# EAGLE library part CHIPCARD-ISO-7816 (library con-chipcard-iso7816)
Chip card connector ISO 7816
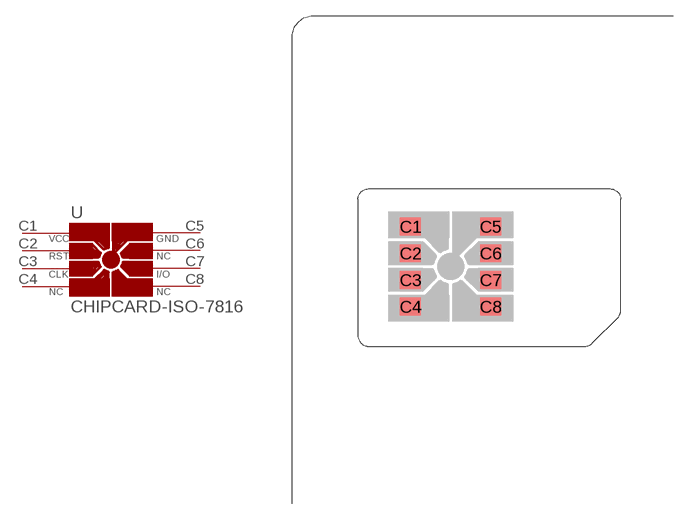
[diagram p0: symbol with the pads of ISO7816; footprint ISO7816]

Designator prefix -

## CHIPCARD-ISO-7816  [ISO7816]
C1  VCC  pas
C2  RST  pas
C3  CLK  pas
C4  NC  pas
C5  GND  pas
C6  NC  pas
C7  I/O  pas
C8  NC  pas

## Footprint ISO7816 (pad centres in mm)
ISO 7816 Chipcard
smd 2 x 1.7: C1 4.999,-3.599; C2 4.999,-6.138; C3 4.999,-8.683; C4 4.999,-11.222; C5 12.622,-3.6; C6 12.622,-6.14; C7 12.622,-8.68; C8 12.622,-11.222